# Altium footprint library 476420001.PcbLib: 1 footprints
Each footprint in its own frame and in the unit in brackets; x right, y up, seen from the top. Pads: shape width x height; smd on the part's side, far side on the other; paste and mask are expansions set on the pad; w line width, h text height; cw(c..) or ccw(c..) is an arc to the next point about the centre after c.
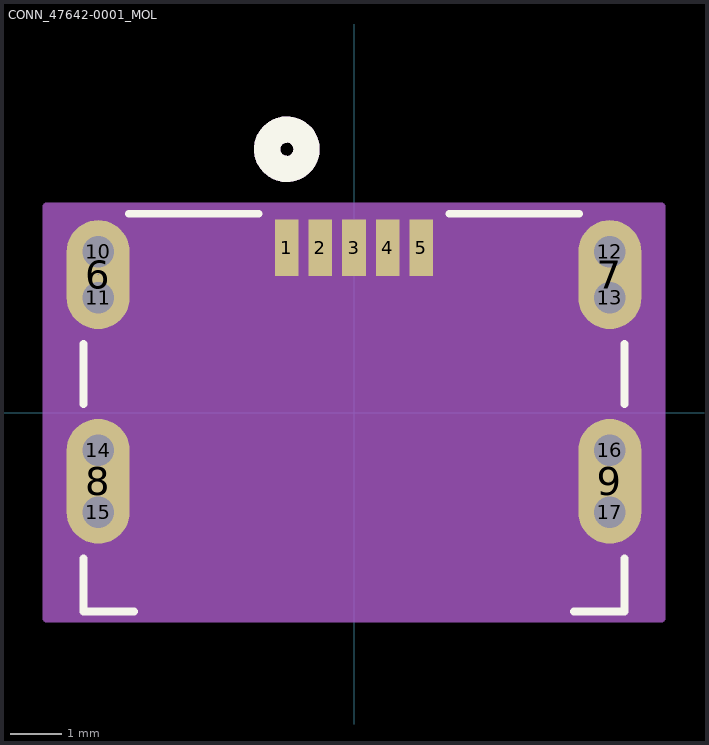
[diagram p0: the footprint, top view; thin cyan lines are the x and y axes]

## CONN_47642-0001_MOL [mil]
pads (17):
  rect 18x43 smd paste+0 mask+0: 1(-51.18,125.63) 2(-25.59,125.63) 3(0,125.63) 4(25.59,125.63) 5(51.18,125.63)
  oval 48x83 / inner round 60 / far side oval 48x83 hole 1 paste-41.5 mask+0: 6(-194.88,105.16) 7(194.88,105.16)
  oval 48x95 / inner round 60 / far side oval 48x95 hole 1 paste-47.5 mask+0: 8(-194.88,-52.32) 9(194.88,-52.32)
  round 24 / inner round 60 / far side round 24 hole 24 unplated paste-12 mask-12: 10(-194.88,122.66) 11(-194.88,87.66) 12(194.88,122.66) 13(194.88,87.66) 14(-194.88,-28.82) 15(-194.88,-75.82) 16(194.88,-28.82) 17(194.88,-75.82)
Top Overlay:
  circle w20: c-51.18,200.63 r15
  lines w6: -206,-111.21 -206,-151.5 -167.72,-151.5 ; -206,6.58 -206,52.27 ; -171.54,151.5 -72.53,151.5 ; 72.53,151.5 171.54,151.5 ; 167.72,-151.5 206,-151.5 206,-111.21 ; 206,6.58 206,52.27
Bottom Overlay:
  circle w20: c-51.18,200.63 r15
Mechanical 13:
  circle w20: c-51.18,200.63 r15
  lines w1: -201,-146.5 201,-146.5 201,146.5 -201,146.5 -201,-146.5
Mechanical 15:
  region: 234.38,157.13 -234.38,157.13 -234.38,-156.79 234.38,-156.79
  lines w6: -234.38,-156.79 -234.38,157.13 234.38,157.13 234.38,-156.79 -234.38,-156.79
Multi-Layer:
  region: -155.5,-146.79 -155.5,88.21 155.5,88.21 155.5,-146.79
  lines w24: -194.88,-75.82 -194.88,-28.82 ; -194.88,87.66 -194.88,122.66 ; 194.88,-75.82 194.88,-28.82 ; 194.88,87.66 194.88,122.66